# Altium footprint library PCB - POWER INDUCTORS - TDK SLF10165.PCBLIB: 1 footprints
Each footprint in its own frame and in the unit in brackets; x right, y up, seen from the top. Pads: shape width x height; smd on the part's side, far side on the other; paste and mask are expansions set on the pad; w line width, h text height; cw(c..) or ccw(c..) is an arc to the next point about the centre after c.
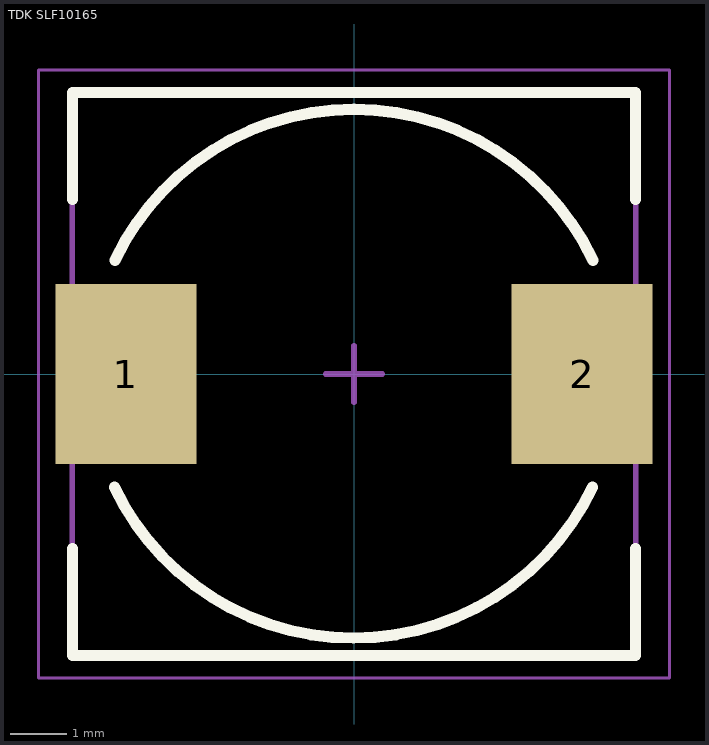
[diagram p0: the footprint, top view; thin cyan lines are the x and y axes]

## TDK SLF10165 [mm] "Precision Wire Wound Inductor, 2-Leads, Body 10.10x10.10mm, IPC Medium Density"
height 6.53
pads (2):
  rect 2.5x3.2 smd: 1(-4.05,0) 2(4.05,0)
Top Overlay:
  lines w0.2: -5,-3.1 -5,-5 5,-5 5,-3.1 ; -5,3.1 -5,5 5,5 5,3.1 ; -4.253,-2.01 ccw(c-0.01,0.01) 4.234,-2.01 ; -4.243,2.021 cw(c0,0) 4.243,2.021
Mechanical 13:
  lines w0.1: -5,-5 5,-5 5,5 -5,5 -5,-5
Mechanical 15:
  lines w0.05: -5.6,-5.4 5.6,-5.4 5.6,5.4 -5.6,5.4 -5.6,-5.4
  lines w0.1: -0.5,0 0.5,0 ; 0,-0.5 0,0.5
3D body "TDK - SLF10165.step": height 6.53, standoff 0, extent -5.05,-5.05 5.05,5.05